# Altium footprint library IND_VLS6045EX-6R8M.PcbLib: 1 footprints
Each footprint in its own frame and in the unit in brackets; x right, y up, seen from the top. Pads: shape width x height; smd on the part's side, far side on the other; paste and mask are expansions set on the pad; w line width, h text height; cw(c..) or ccw(c..) is an arc to the next point about the centre after c.
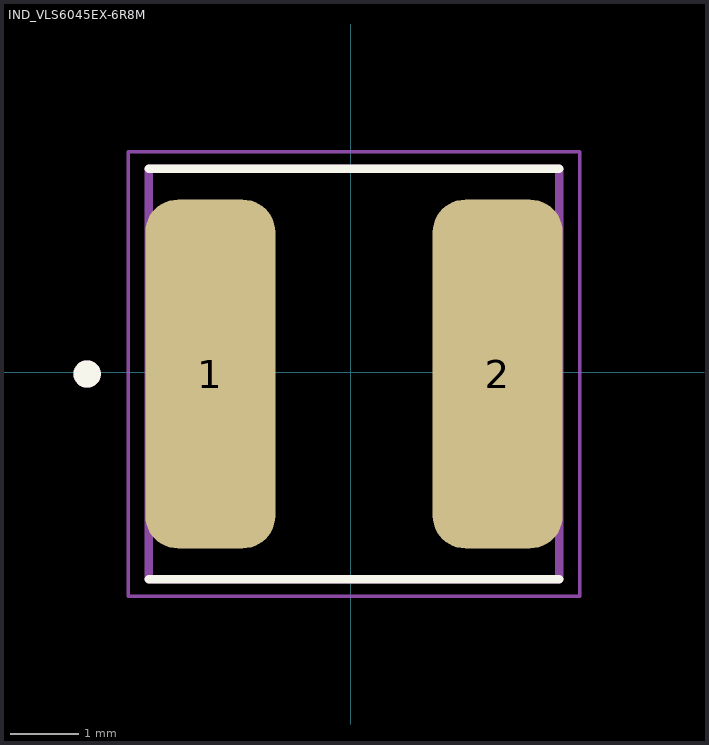
[diagram p0: the footprint, top view; thin cyan lines are the x and y axes]

## IND_VLS6045EX-6R8M [mm]
height 4.5
pads (2):
  rrect50% 1.9x5.1 smd: 1(-2.05,-0.025) 2(2.15,-0.025)
Top Overlay:
  circle w0.2: c-3.85,-0.025 r0.1
  lines w0.127: -2.95,-3.025 3.05,-3.025 ; -2.95,2.975 3.05,2.975
Top 3D Body:
  circle w0.2: c-3.85,-0.025 r0.1
  lines w0.127: -2.95,-3.025 -2.95,2.975 3.05,2.975 3.05,-3.025 -2.95,-3.025
Courtyard Top:
  lines w0.05: -3.25,-3.275 -3.25,3.225 3.35,3.225 3.35,-3.275 -3.25,-3.275
Top Designator (Mech29):
  text ".Designator" at 0.333,-4.998 h1
3D body "step_temp.STEP": height 4.5, standoff 0, extent -3,-3 3,3